# Altium footprint library LQFP176_0.PcbLib: 1 footprints
Each footprint in its own frame and in the unit in brackets; x right, y up, seen from the top. Pads: shape width x height; smd on the part's side, far side on the other; paste and mask are expansions set on the pad; w line width, h text height; cw(c..) or ccw(c..) is an arc to the next point about the centre after c.
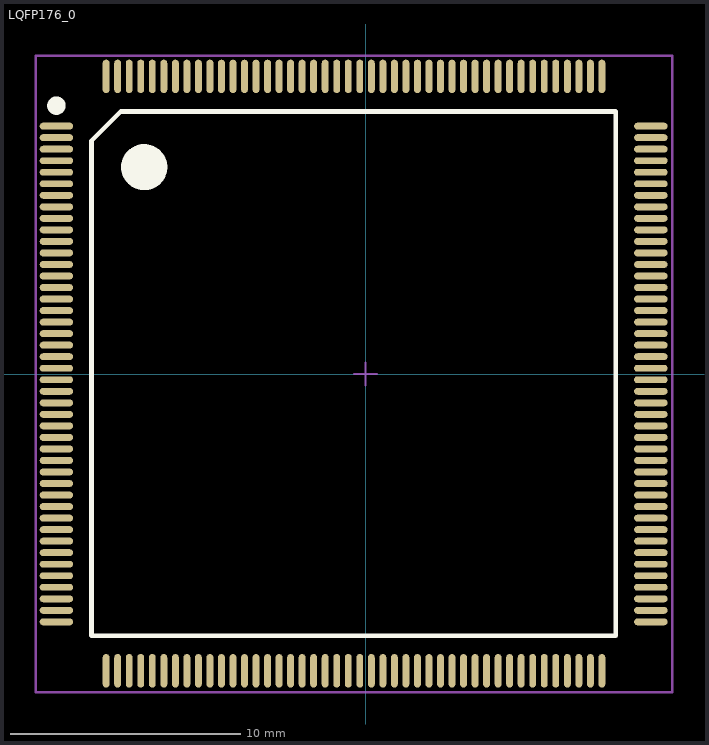
[diagram p0: the footprint, top view; thin cyan lines are the x and y axes]

## LQFP176_0 [mm]
pads (176):
  oval 1.45x0.3 smd mask+0.05: 1(-13.408,10.75) 2(-13.408,10.25) 3(-13.408,9.75) 4(-13.408,9.25) 5(-13.408,8.75) 6(-13.408,8.25) 7(-13.408,7.75) 8(-13.408,7.25) 9(-13.408,6.75) 10(-13.408,6.25) 11(-13.408,5.75) 12(-13.408,5.25) 13(-13.408,4.75) 14(-13.408,4.25) 15(-13.408,3.75) 16(-13.408,3.25) 17(-13.408,2.75) 18(-13.408,2.25) 19(-13.408,1.75) 20(-13.408,1.25) 21(-13.408,0.75) 22(-13.408,0.25) 23(-13.408,-0.25) 24(-13.408,-0.75) 25(-13.408,-1.25) 26(-13.408,-1.75) 27(-13.408,-2.25) 28(-13.408,-2.75) 29(-13.408,-3.25) 30(-13.408,-3.75) 31(-13.408,-4.25) 32(-13.408,-4.75) 33(-13.408,-5.25) 34(-13.408,-5.75) 35(-13.408,-6.25) 36(-13.408,-6.75) 37(-13.408,-7.25) 38(-13.408,-7.75) 39(-13.408,-8.25) 40(-13.408,-8.75) 41(-13.408,-9.25) 42(-13.408,-9.75) 43(-13.408,-10.25) 44(-13.408,-10.75) 89(12.373,-10.75) 90(12.373,-10.25) 91(12.373,-9.75) 92(12.373,-9.25) 93(12.373,-8.75) 94(12.373,-8.25) 95(12.373,-7.75) 96(12.373,-7.25) 97(12.373,-6.75) 98(12.373,-6.25) 99(12.373,-5.75) 100(12.373,-5.25) 101(12.373,-4.75) 102(12.373,-4.25) 103(12.373,-3.75) 104(12.373,-3.25) 105(12.373,-2.75) 106(12.373,-2.25) 107(12.373,-1.75) 108(12.373,-1.25) 109(12.373,-0.75) 110(12.373,-0.25) 111(12.373,0.25) 112(12.373,0.75) 113(12.373,1.25) 114(12.373,1.75) 115(12.373,2.25) 116(12.373,2.75) 117(12.373,3.25) 118(12.373,3.75) 119(12.373,4.25) 120(12.373,4.75) 121(12.373,5.25) 122(12.373,5.75) 123(12.373,6.25) 124(12.373,6.75) 125(12.373,7.25) 126(12.373,7.75) 127(12.373,8.25) 128(12.373,8.75) 129(12.373,9.25) 130(12.373,9.75) 131(12.373,10.25) 132(12.373,10.75)
  oval 0.3x1.45 smd mask+0.05: 45(-11.249,-12.872) 46(-10.749,-12.872) 47(-10.249,-12.872) 48(-9.749,-12.872) 49(-9.249,-12.872) 50(-8.749,-12.872) 51(-8.249,-12.872) 52(-7.749,-12.872) 53(-7.249,-12.872) 54(-6.749,-12.872) 55(-6.249,-12.872) 56(-5.749,-12.872) 57(-5.249,-12.872) 58(-4.749,-12.872) 59(-4.249,-12.872) 60(-3.749,-12.872) 61(-3.249,-12.872) 62(-2.749,-12.872) 63(-2.249,-12.872) 64(-1.749,-12.872) 65(-1.249,-12.872) 66(-0.749,-12.872) 67(-0.249,-12.872) 68(0.251,-12.872) 69(0.751,-12.872) 70(1.251,-12.872) 71(1.751,-12.872) 72(2.251,-12.872) 73(2.751,-12.872) 74(3.251,-12.872) 75(3.751,-12.872) 76(4.251,-12.872) 77(4.751,-12.872) 78(5.251,-12.872) 79(5.751,-12.872) 80(6.251,-12.872) 81(6.751,-12.872) 82(7.251,-12.872) 83(7.751,-12.872) 84(8.251,-12.872) 85(8.751,-12.872) 86(9.251,-12.872) 87(9.751,-12.872) 88(10.251,-12.872) 133(10.251,12.909) 134(9.751,12.909) 135(9.251,12.909) 136(8.751,12.909) 137(8.251,12.909) 138(7.751,12.909) 139(7.251,12.909) 140(6.751,12.909) 141(6.251,12.909) 142(5.751,12.909) 143(5.251,12.909) 144(4.751,12.909) 145(4.251,12.909) 146(3.751,12.909) 147(3.251,12.909) 148(2.751,12.909) 149(2.251,12.909) 150(1.751,12.909) 151(1.251,12.909) 152(0.751,12.909) 153(0.251,12.909) 154(-0.249,12.909) 155(-0.749,12.909) 156(-1.249,12.909) 157(-1.749,12.909) 158(-2.249,12.909) 159(-2.749,12.909) 160(-3.249,12.909) 161(-3.749,12.909) 162(-4.249,12.909) 163(-4.749,12.909) 164(-5.249,12.909) 165(-5.749,12.909) 166(-6.249,12.909) 167(-6.749,12.909) 168(-7.249,12.909) 169(-7.749,12.909) 170(-8.249,12.909) 171(-8.749,12.909) 172(-9.249,12.909) 173(-9.749,12.909) 174(-10.249,12.909) 175(-10.749,12.909) 176(-11.249,12.909)
Top Overlay:
  circle w0.4: c-13.408,11.639 r0.2
  circle w1: c-9.598,8.972 r0.5
  lines w0.2: -11.884,-11.348 -11.884,10.115 -10.614,11.385 10.849,11.385 10.849,-11.348 -11.884,-11.348
Mechanical 15:
  lines w0.1: -0.5,0 0.5,0 ; 0,-0.5 0,0.5 ; -14.3,-13.8 13.3,-13.8 13.3,13.8 -14.3,13.8 -14.3,-13.8
3D body "LQFP176.SLDPRT": height 1.1, standoff -0.05, extent -13.504,-13.004 12.504,13.004